# Altium integrated library VNH2SP30.IntLib: 1 symbol
Pins are listed as number, name and electrical type; pins without a type are passive.

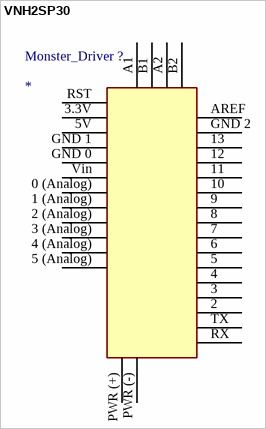
[diagram p0: symbol VNH2SP30]

## VNH2SP30
designator Monster_Driver ?
footprint VNH2SP30
pins: 0 (Analog), 1 (Analog), 2, 2 (Analog), 3, 3 (Analog), 3.3V, 4, 4 (Analog), 5, 5 (Analog), 5V, 6, 7, 8, 9, 10, 11, 12, 13, A1, A2, AREF, B1, B2, GND 0, GND 1, GND 2, PWR (+), PWR (-), RST, RX, TX, Vin